# EAGLE library part MCP7941X (library lib_stankus)
Microchip MCP7941X RTC
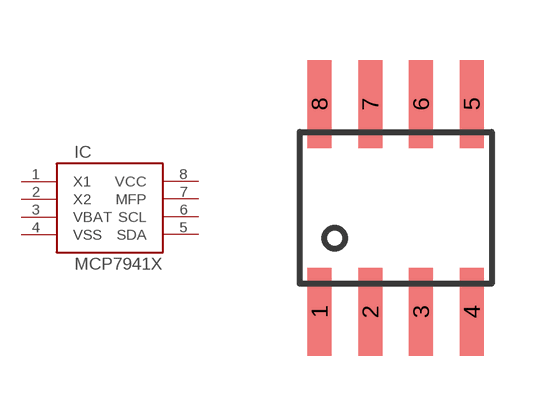
[diagram p25: symbol with the pads of SOIC8; footprint SOIC8]

Designator prefix IC

## MCP7941X-SOIC8  [SOIC8]
1  X1  pas
2  X2  pas
3  VBAT  pas
4  VSS  pas
5  SDA  pas
6  SCL  pas
7  MFP  pas
8  VCC  pas

## Footprint SOIC8 (pad centres in mm)
SOIC8
smd 0.6 x 2.2: 1 -1.905,-2.6; 2 -0.635,-2.6; 3 0.635,-2.6; 4 1.905,-2.6; 5 1.905,2.6; 6 0.635,2.6; 7 -0.635,2.6; 8 -1.905,2.6